# Altium footprint library LM324DR2G.PcbLib: 3 footprints
Each footprint in its own frame and in the unit in brackets; x right, y up, seen from the top. Pads: shape width x height; smd on the part's side, far side on the other; paste and mask are expansions set on the pad; w line width, h text height; cw(c..) or ccw(c..) is an arc to the next point about the centre after c.
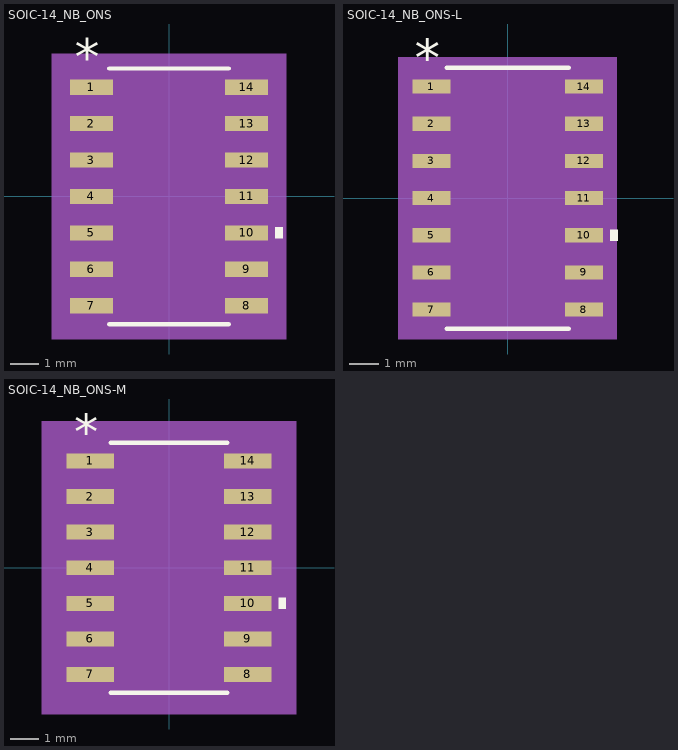
[diagram p0: the footprints below, top view; thin cyan lines are the x and y axes]

## SOIC-14_NB_ONS [mil]
pads (14):
  rect 59x21 smd paste+0 mask+0: 1(-106.5,150) 2(-106.5,100) 3(-106.5,50) 4(-106.5,0) 5(-106.5,-50) 6(-106.5,-100) 7(-106.5,-150) 8(106.5,-150) 9(106.5,-100) 10(106.5,-50) 11(106.5,0) 12(106.5,50) 13(106.5,100) 14(106.5,150)
Top Overlay:
  region: 146,-42.5 156,-42.5 156,-57.5 146,-57.5
  lines w6: -82,-175.5 82,-175.5 ; -82,175.5 82,175.5
  text "*" at -129,166 h50
Mechanical 5:
  region: 161,-195.5 -161,-195.5 -161,195.5 161,195.5
Mechanical 13:
  lines w0: -12,170.5 ccw(c0,170.5) 12,170.5
  lines w1: -122,-159.5 -122,-140.5 -77,-140.5 -77,-159.5 -122,-159.5 ; -122,-109.5 -122,-90.5 -77,-90.5 -77,-109.5 -122,-109.5 ; -122,-59.5 -122,-40.5 -77,-40.5 -77,-59.5 -122,-59.5 ; -122,-9.5 -122,9.5 -77,9.5 -77,-9.5 -122,-9.5 ; -122,40.5 -122,59.5 -77,59.5 -77,40.5 -122,40.5 ; -122,90.5 -122,109.5 -77,109.5 -77,90.5 -122,90.5 ; -122,140.5 -122,159.5 -77,159.5 -77,140.5 -122,140.5 ; -77,-170.5 77,-170.5 77,170.5 -77,170.5 -77,-170.5 ; 77,-159.5 77,-140.5 122,-140.5 122,-159.5 77,-159.5 ; 77,-109.5 77,-90.5 122,-90.5 122,-109.5 77,-109.5 ; 77,-59.5 77,-40.5 122,-40.5 122,-59.5 77,-59.5 ; 77,-9.5 77,9.5 122,9.5 122,-9.5 77,-9.5 ; 77,40.5 77,59.5 122,59.5 122,40.5 77,40.5 ; 77,90.5 77,109.5 122,109.5 122,90.5 77,90.5 ; 77,140.5 77,159.5 122,159.5 122,140.5 77,140.5
  text "*" at -74.5,117.5 h50
Mechanical 15:
  region: -87,-170.5 -146,-170.5 -146,170.5 -87,170.5 -87,180.5 87,180.5 87,170.5 146,170.5 146,-170.5 87,-170.5 87,-180.5 -87,-180.5
  lines w6: -146,-170.5 -146,170.5 -87,170.5 -87,180.5 87,180.5 87,170.5 146,170.5 146,-170.5 87,-170.5 87,-180.5 -87,-180.5 -87,-170.5 -146,-170.5
3D body "SOIC-14_NB_ONS.step": height 69.09, standoff 0, extent -122.01,-170.51 122.01,170.51

## SOIC-14_NB_ONS-L [mil]
pads (14):
  rect 51x19 smd paste+0 mask+0: 1(-102.5,150) 2(-102.5,100) 3(-102.5,50) 4(-102.5,0) 5(-102.5,-50) 6(-102.5,-100) 7(-102.5,-150) 8(102.5,-150) 9(102.5,-100) 10(102.5,-50) 11(102.5,0) 12(102.5,50) 13(102.5,100) 14(102.5,150)
Top Overlay:
  region: 138,-42.5 148,-42.5 148,-57.5 138,-57.5
  lines w6: -82,-175.5 82,-175.5 ; -82,175.5 82,175.5
  text "*" at -125,164 h50
Mechanical 5:
  region: 147,-189.5 -147,-189.5 -147,189.5 147,189.5
Mechanical 13:
  lines w0: -12,170.5 ccw(c0,170.5) 12,170.5
  lines w1: -122,-159.5 -122,-140.5 -77,-140.5 -77,-159.5 -122,-159.5 ; -122,-109.5 -122,-90.5 -77,-90.5 -77,-109.5 -122,-109.5 ; -122,-59.5 -122,-40.5 -77,-40.5 -77,-59.5 -122,-59.5 ; -122,-9.5 -122,9.5 -77,9.5 -77,-9.5 -122,-9.5 ; -122,40.5 -122,59.5 -77,59.5 -77,40.5 -122,40.5 ; -122,90.5 -122,109.5 -77,109.5 -77,90.5 -122,90.5 ; -122,140.5 -122,159.5 -77,159.5 -77,140.5 -122,140.5 ; -77,-170.5 77,-170.5 77,170.5 -77,170.5 -77,-170.5 ; 77,-159.5 77,-140.5 122,-140.5 122,-159.5 77,-159.5 ; 77,-109.5 77,-90.5 122,-90.5 122,-109.5 77,-109.5 ; 77,-59.5 77,-40.5 122,-40.5 122,-59.5 77,-59.5 ; 77,-9.5 77,9.5 122,9.5 122,-9.5 77,-9.5 ; 77,40.5 77,59.5 122,59.5 122,40.5 77,40.5 ; 77,90.5 77,109.5 122,109.5 122,90.5 77,90.5 ; 77,140.5 77,159.5 122,159.5 122,140.5 77,140.5
  text "*" at -74.5,117.5 h50
Mechanical 15:
  region: -81,-163.5 -132,-163.5 -132,163.5 -81,163.5 -81,174.5 81,174.5 81,163.5 132,163.5 132,-163.5 81,-163.5 81,-174.5 -81,-174.5
  lines w6: -132,-163.5 -132,163.5 -81,163.5 -81,174.5 81,174.5 81,163.5 132,163.5 132,-163.5 81,-163.5 81,-174.5 -81,-174.5 -81,-163.5 -132,-163.5
3D body "SOIC-14_NB_ONS.step": height 69.09, standoff 0, extent -122.01,-170.51 122.01,170.51

## SOIC-14_NB_ONS-M [mil]
pads (14):
  rect 67x21 smd paste+0 mask+0: 1(-110.5,150) 2(-110.5,100) 3(-110.5,50) 4(-110.5,0) 5(-110.5,-50) 6(-110.5,-100) 7(-110.5,-150) 8(110.5,-150) 9(110.5,-100) 10(110.5,-50) 11(110.5,0) 12(110.5,50) 13(110.5,100) 14(110.5,150)
Top Overlay:
  region: 154,-42.5 164,-42.5 164,-57.5 154,-57.5
  lines w6: -82,-175.5 82,-175.5 ; -82,175.5 82,175.5
  text "*" at -133,166 h50
Mechanical 5:
  region: 179,-205.5 -179,-205.5 -179,205.5 179,205.5
Mechanical 13:
  lines w0: -12,170.5 ccw(c0,170.5) 12,170.5
  lines w1: -122,-159.5 -122,-140.5 -77,-140.5 -77,-159.5 -122,-159.5 ; -122,-109.5 -122,-90.5 -77,-90.5 -77,-109.5 -122,-109.5 ; -122,-59.5 -122,-40.5 -77,-40.5 -77,-59.5 -122,-59.5 ; -122,-9.5 -122,9.5 -77,9.5 -77,-9.5 -122,-9.5 ; -122,40.5 -122,59.5 -77,59.5 -77,40.5 -122,40.5 ; -122,90.5 -122,109.5 -77,109.5 -77,90.5 -122,90.5 ; -122,140.5 -122,159.5 -77,159.5 -77,140.5 -122,140.5 ; -77,-170.5 77,-170.5 77,170.5 -77,170.5 -77,-170.5 ; 77,-159.5 77,-140.5 122,-140.5 122,-159.5 77,-159.5 ; 77,-109.5 77,-90.5 122,-90.5 122,-109.5 77,-109.5 ; 77,-59.5 77,-40.5 122,-40.5 122,-59.5 77,-59.5 ; 77,-9.5 77,9.5 122,9.5 122,-9.5 77,-9.5 ; 77,40.5 77,59.5 122,59.5 122,40.5 77,40.5 ; 77,90.5 77,109.5 122,109.5 122,90.5 77,90.5 ; 77,140.5 77,159.5 122,159.5 122,140.5 77,140.5
  text "*" at -74.5,117.5 h50
Mechanical 15:
  region: -97,-180.5 -164,-180.5 -164,180.5 -97,180.5 -97,190.5 97,190.5 97,180.5 164,180.5 164,-180.5 97,-180.5 97,-190.5 -97,-190.5
  lines w6: -164,-180.5 -164,180.5 -97,180.5 -97,190.5 97,190.5 97,180.5 164,180.5 164,-180.5 97,-180.5 97,-190.5 -97,-190.5 -97,-180.5 -164,-180.5
3D body "SOIC-14_NB_ONS.step": height 69.09, standoff 0, extent -122.01,-170.51 122.01,170.51